# Altium footprint library OUPIN_SD_CONNECTOR.PcbLib: 1 footprints
Each footprint in its own frame and in the unit in brackets; x right, y up, seen from the top. Pads: shape width x height; smd on the part's side, far side on the other; paste and mask are expansions set on the pad; w line width, h text height; cw(c..) or ccw(c..) is an arc to the next point about the centre after c.
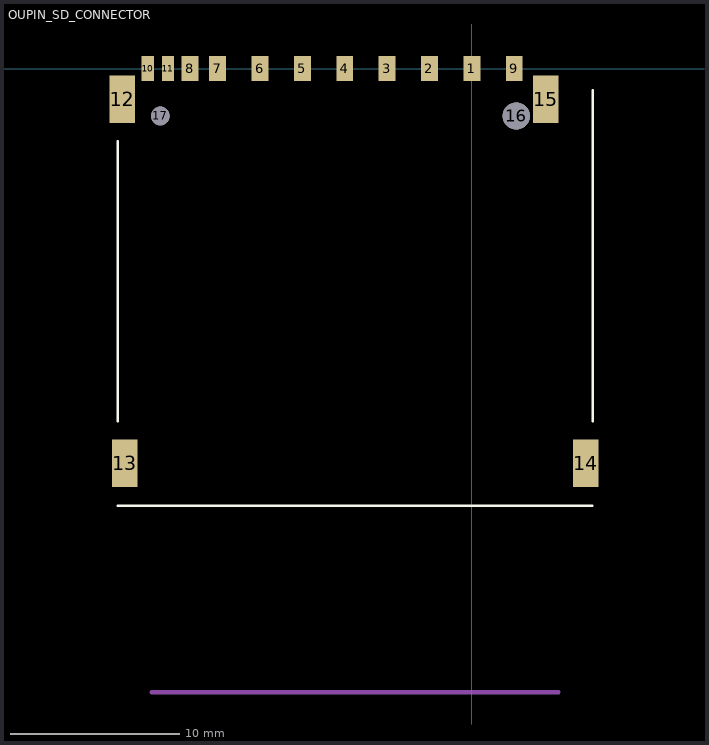
[diagram p0: the footprint, top view; thin cyan lines are the x and y axes]

## OUPIN_SD_CONNECTOR [mm]
pads (17):
  rect 1x1.5 smd: 1(0,0) 2(-2.5,0) 3(-5,0) 4(-7.5,0) 5(-10,0) 6(-12.5,0) 7(-15,0) 8(-16.625,0) 9(2.5,0)
  rect 0.72x1.5 smd: 10(-19.125,0) 11(-17.935,0)
  rect 1.5x2.8 smd: 12(-20.63,-1.8) 13(-20.48,-23.3) 14(6.72,-23.3) 15(4.37,-1.8)
  round 1.6 hole 1.6 unplated: 16(2.62,-2.8)
  round 1.1 hole 1.1 unplated: 17(-18.38,-2.8)
Top Overlay:
  lines w0.127: -20.891,-25.8 7.109,-25.8 ; -20.891,-20.833 -20.891,-4.267 ; 7.131,-20.833 7.131,-1.257
Mechanical 1:
  lines w0.254: -18.891,-36.8 5.109,-36.8
3D body: height 2.25, standoff 0.15, extent -18.904,-36.8 5.096,-4.8
3D body: height 3.3, standoff -0.85, extent -20.904,-25.848 7.129,0.508